# Altium footprint library 691 319 510 0xx.PcbLib: 6 footprints
Each footprint in its own frame and in the unit in brackets; x right, y up, seen from the top. Pads: shape width x height; smd on the part's side, far side on the other; paste and mask are expansions set on the pad; w line width, h text height; cw(c..) or ccw(c..) is an arc to the next point about the centre after c.
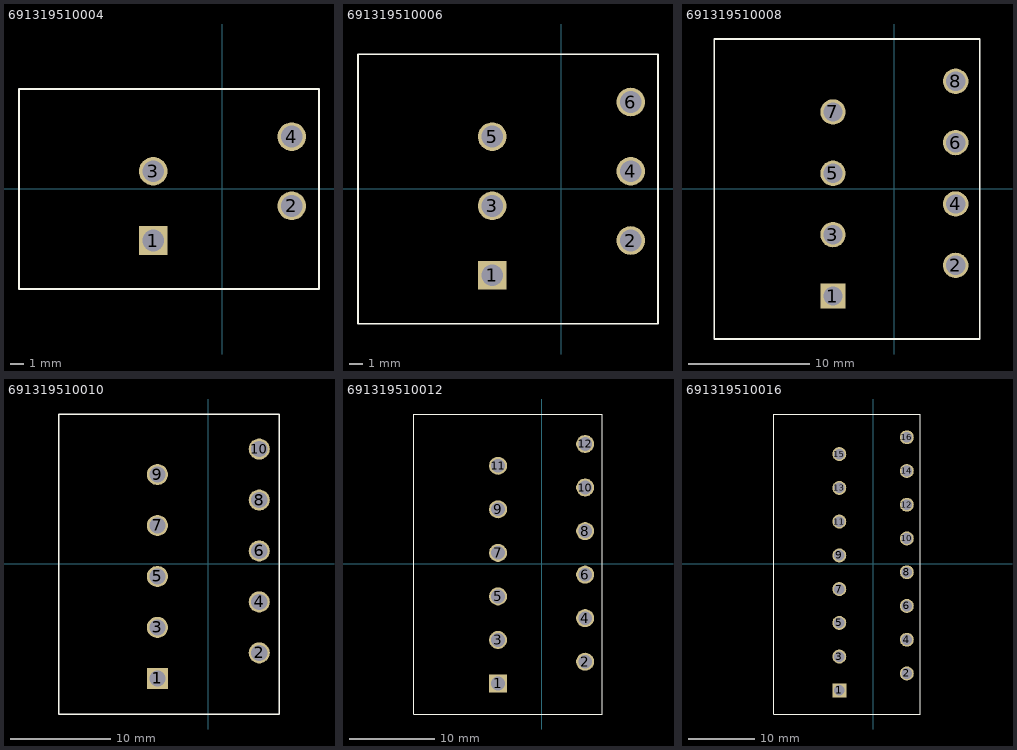
[diagram p0: the footprints below, top view; thin cyan lines are the x and y axes]

## 691319510004 [mm] "5,08mm - PCB - Dual row - Staggered - Horizontal - Closed - 04p"
pads (4):
  rect 2.1x2.1 hole 1.6: 1(-5.08,-3.81)
  round 2.1 hole 1.6: 2(5.08,-1.27) 3(-5.08,1.27) 4(5.08,3.81)
Top Overlay:
  lines w0.127: -14.92,-7.37 7.08,-7.37 7.08,7.31 -14.92,7.31 -14.92,-7.37
3D body: height 23.71, standoff -3.99, extent -14.92,-7.37 7.08,7.33

## 691319510006 [mm] "5,08mm - PCB - Dual row - Staggered - Horizontal - Closed - 06p"
height 23.7
pads (6):
  rect 2.1x2.1 hole 1.6: 1(-5.08,-6.35)
  round 2.1 hole 1.6: 2(5.08,-3.81) 3(-5.08,-1.27) 4(5.08,1.27) 5(-5.08,3.81) 6(5.08,6.35)
Top Overlay:
  lines w0.127: -14.92,-4.83 -14.92,9.85 7.08,9.85 7.08,-4.83 ; -14.92,4.77 -14.92,-9.91 7.08,-9.91 7.08,4.77
3D body: height 23.71, standoff -3.99, extent -14.92,-9.91 7.08,9.87

## 691319510008 [mm] "5,08mm - PCB - Dual row - Staggered - Horizontal - Closed - 08p"
height 23.7
pads (8):
  rect 2.1x2.1 hole 1.6: 1(-5.08,-8.89)
  round 2.1 hole 1.6: 2(5.08,-6.35) 3(-5.08,-3.81) 4(5.08,-1.27) 5(-5.08,1.27) 6(5.08,3.81) 7(-5.08,6.35) 8(5.08,8.89)
Top Overlay:
  lines w0.127: -14.92,-2.29 -14.92,12.39 7.08,12.39 7.08,-2.29 ; -14.92,2.23 -14.92,-12.45 7.08,-12.45 7.08,2.23
3D body: height 23.71, standoff -3.99, extent -14.92,-12.45 7.08,12.41

## 691319510010 [mm] "5,08mm - PCB - Dual row - Staggered - Horizontal - Closed - 10p"
height 23.7
pads (10):
  rect 2.1x2.1 hole 1.6: 1(-5.08,-11.43)
  round 2.1 hole 1.6: 2(5.08,-8.89) 3(-5.08,-6.35) 4(5.08,-3.81) 5(-5.08,-1.27) 6(5.08,1.27) 7(-5.08,3.81) 8(5.08,6.35) 9(-5.08,8.89) 10(5.08,11.43)
Top Overlay:
  lines w0.127: -14.92,-4.83 -14.92,9.85 ; -14.92,-0.31 -14.92,-14.99 7.08,-14.99 7.08,-0.31 ; -14.92,0.25 -14.92,14.93 7.08,14.93 7.08,0.25 ; 7.08,-4.83 7.08,9.85
3D body: height 23.71, standoff -3.99, extent -14.92,-14.99 7.08,14.95

## 691319510012 [mm] "5,08mm - PCB - Dual row - Staggered - Horizontal - Closed - 12p"
height 23.7
pads (12):
  rect 2.1x2.1 hole 1.6: 1(-5.08,-13.97)
  round 2.1 hole 1.6: 2(5.08,-11.43) 3(-5.08,-8.89) 4(5.08,-6.35) 5(-5.08,-3.81) 6(5.08,-1.27) 7(-5.08,1.27) 8(5.08,3.81) 9(-5.08,6.35) 10(5.08,8.89) 11(-5.08,11.43) 12(5.08,13.97)
Top Overlay:
  lines w0.127: -14.92,-7.37 -14.92,7.31 ; -14.92,-2.85 -14.92,-17.53 7.08,-17.53 7.08,17.47 -14.92,17.47 -14.92,2.79
3D body: height 23.71, standoff -3.99, extent -14.92,-17.53 7.08,17.49

## 691319510016 [mm] "5,08mm - PCB - Dual row - Staggered - Horizontal - Closed - 16p"
height 23.7
pads (16):
  rect 2.1x2.1 hole 1.6: 1(-5.08,-19.05)
  round 2.1 hole 1.6: 2(5.08,-16.51) 3(-5.08,-13.97) 4(5.08,-11.43) 5(-5.08,-8.89) 6(5.08,-6.35) 7(-5.08,-3.81) 8(5.08,-1.27) 9(-5.08,1.27) 10(5.08,3.81) 11(-5.08,6.35) 12(5.08,8.89) 13(-5.08,11.43) 14(5.08,13.97) 15(-5.08,16.51) 16(5.08,19.05)
Top Overlay:
  lines w0.127: -14.92,-12.45 -14.92,2.23 ; -14.92,-7.93 -14.92,-22.61 7.08,-22.61 7.08,-7.93 ; -14.92,-2.29 -14.92,12.39 ; -14.92,7.87 -14.92,22.55 7.08,22.55 7.08,7.87 ; 7.08,-12.45 7.08,2.23 ; 7.08,-2.29 7.08,12.39
3D body: height 23.71, standoff -3.99, extent -14.92,-22.61 7.08,22.57